# EAGLE library part PENKO_CON30_WITHOUT(15-20) (library iMX233-OLinuXino-NANO_Rev_B)
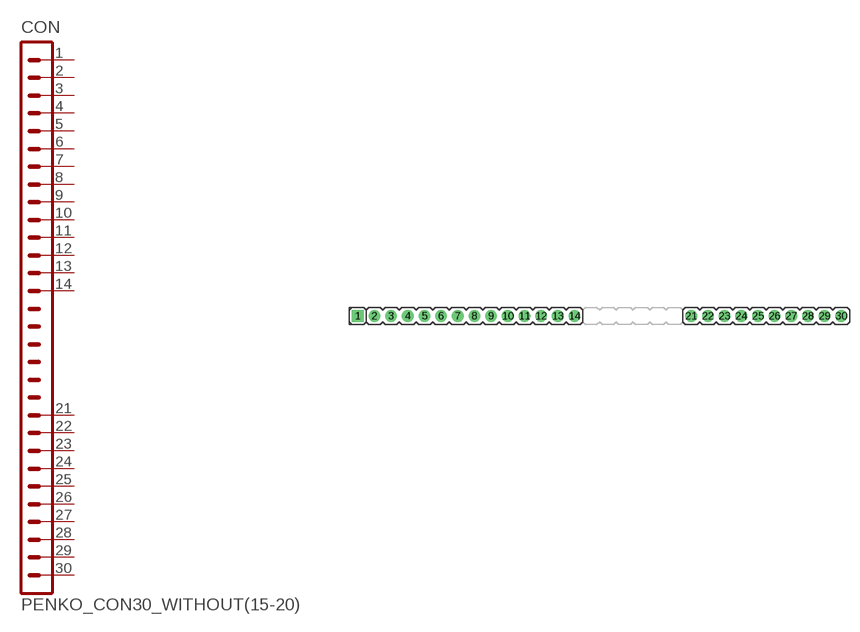
[diagram p7: symbol with the pads of PENKO_HN1X30_WITHOUT(15-20); footprint PENKO_HN1X30_WITHOUT(15-20)]

Designator prefix CON

## PENKO_CON30_WITHOUT(15-20)  [PENKO_HN1X30_WITHOUT(15-20)]
1  1  pas
2  2  pas
3  3  pas
4  4  pas
5  5  pas
6  6  pas
7  7  pas
8  8  pas
9  9  pas
10  10  pas
11  11  pas
12  12  pas
13  13  pas
14  14  pas
21  21  pas
22  22  pas
23  23  pas
24  24  pas
25  25  pas
26  26  pas
27  27  pas
28  28  pas
29  29  pas
30  30  pas

## Footprint PENKO_HN1X30_WITHOUT(15-20) (pad centres in mm)
drill 1.1 pad 1.778 square: 1 -36.83,0
drill 1.1 pad 1.778: 2 -34.29,0; 3 -31.75,0; 4 -29.21,0; 5 -26.67,0; 6 -24.13,0; 7 -21.59,0; 8 -19.05,0; 9 -16.51,0; 10 -13.97,0; 11 -11.43,0; 12 -8.89,0; 13 -6.35,0; 14 -3.81,0; 21 13.97,0; 22 16.51,0; 23 19.05,0; 24 21.59,0; 25 24.13,0; 26 26.67,0; 27 29.21,0; 28 31.75,0; 29 34.29,0; 30 36.83,0